# Altium footprint library DSUB25-M180.PcbLib: 1 footprints
Each footprint in its own frame and in the unit in brackets; x right, y up, seen from the top. Pads: shape width x height; smd on the part's side, far side on the other; paste and mask are expansions set on the pad; w line width, h text height; cw(c..) or ccw(c..) is an arc to the next point about the centre after c.
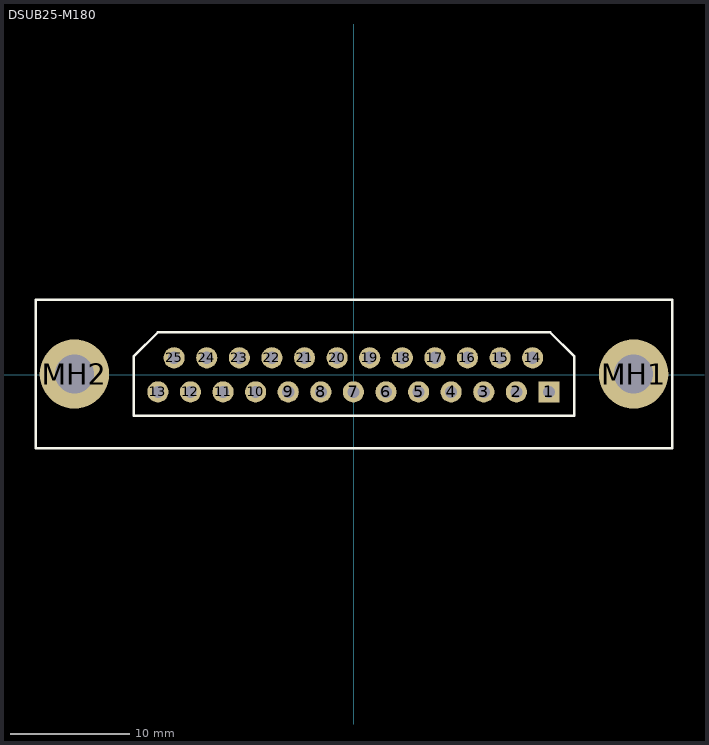
[diagram p0: the footprint, top view; thin cyan lines are the x and y axes]

## DSUB25-M180 [mil]
pads (27):
  rect 70x70 hole 40: 1(645.26,-56.4)
  round 70 hole 40: 2(537.39,-56.4) 3(429.51,-56.4) 4(321.64,-56.4) 5(213.76,-56.4) 6(105.89,-56.4) 7(-1.98,-56.4) 8(-109.86,-56.4) 9(-217.73,-56.4) 10(-325.61,-56.4) 11(-433.48,-56.4) 12(-541.35,-56.4) 13(-649.23,-56.4) 14(591.32,56.4) 15(483.45,56.4) 16(375.57,56.4) 17(267.7,56.4) 18(159.83,56.4) 19(51.95,56.4) 20(-55.92,56.4) 21(-163.79,56.4) 22(-271.67,56.4) 23(-379.54,56.4) 24(-487.42,56.4) 25(-595.29,56.4)
  round 230 hole 130: MH1(925.2,2.73) MH2(-925.2,2.73)
Top Overlay:
  lines w8: -1053.15,-243.33 1053.15,-243.33 1053.15,248.79 -1053.15,248.79 -1053.15,-243.33 ; -728.35,-135.07 728.35,-135.07 728.35,61.78 649.61,140.52 -649.61,140.52 -728.35,61.78 -728.35,-135.07